# EAGLE library part IP4220 (library GTA04b7)
USB2.0 compliant ESD filter; 1pF; 4 ports
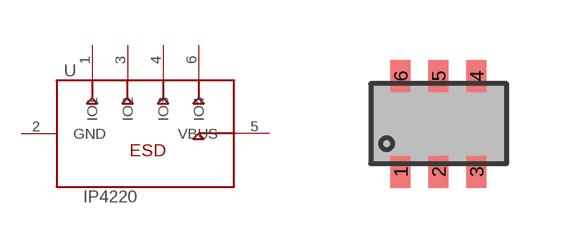
[diagram p21: symbol with the pads of SOT457-6; footprint SOT457-6]

Designator prefix -

## IP4220CZ6  [SOT457-6]
1  IO1
2  GND  pwr
3  IO2
4  IO3
5  VBUS
6  IO4

## Footprint SOT457-6 (pad centres in mm)
SOT457 6 leads = SC74 = TSOP6
smd 0.5 x 0.8: 1 -0.95,-1.2; 2 0,-1.2; 3 0.95,-1.2; 4 0.95,1.2; 5 0,1.2; 6 -0.95,1.2